# Altium footprint library CAPs.PcbLib: 12 footprints
Each footprint in its own frame and in the unit in brackets; x right, y up, seen from the top. Pads: shape width x height; smd on the part's side, far side on the other; paste and mask are expansions set on the pad; w line width, h text height; cw(c..) or ccw(c..) is an arc to the next point about the centre after c.
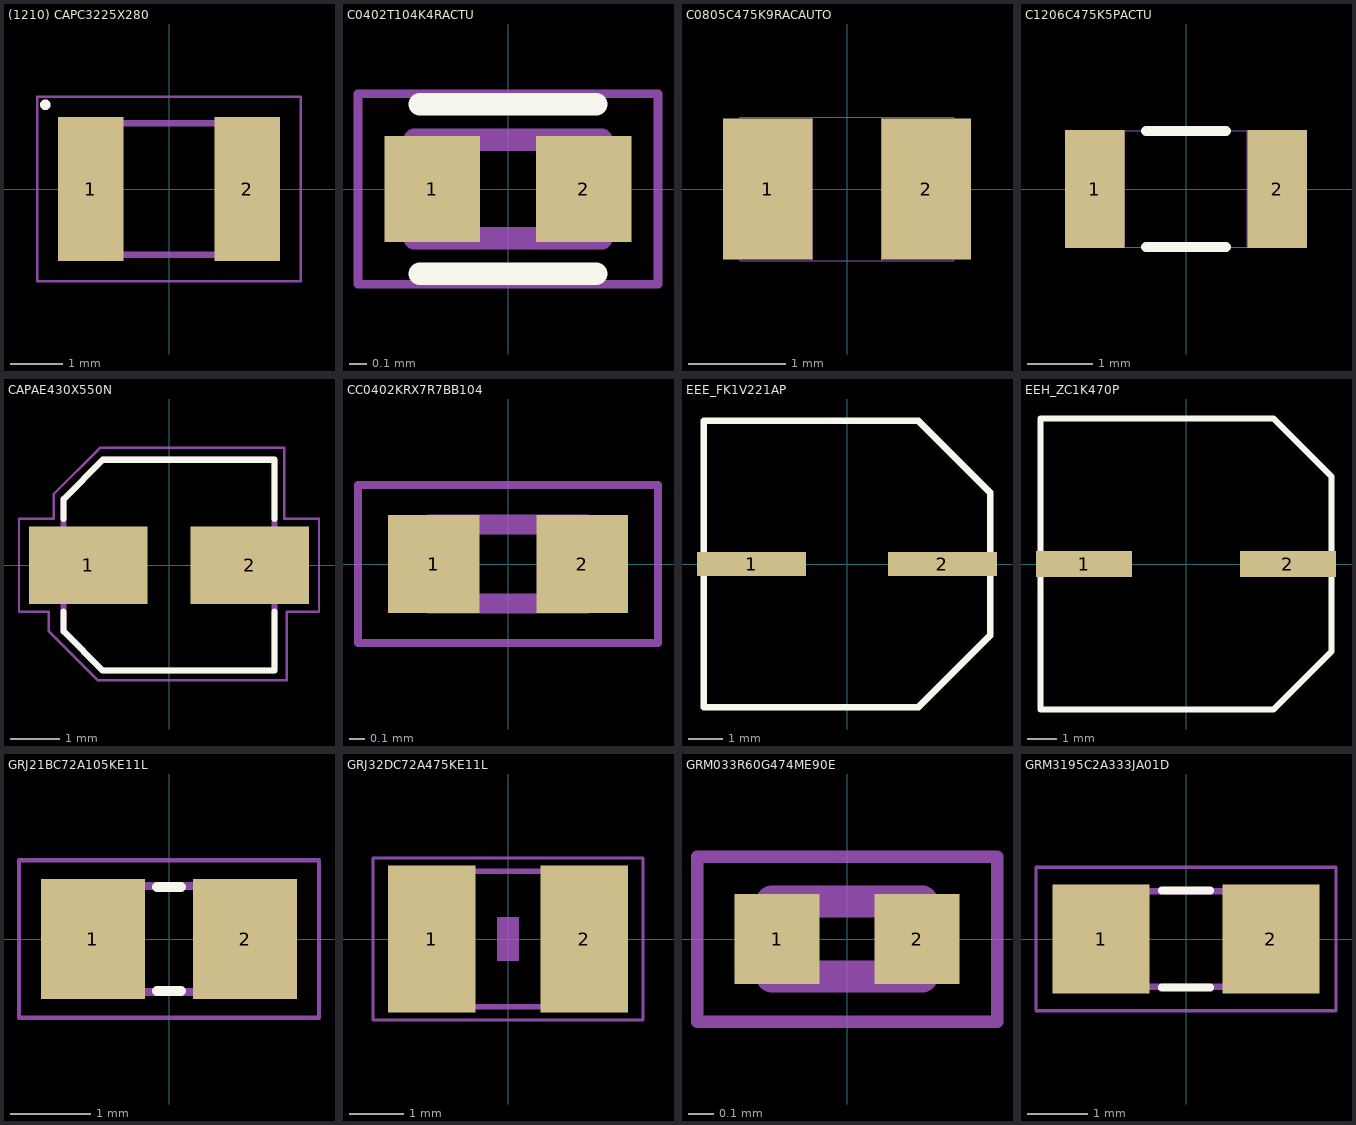
[diagram p0: the footprints below, top view; thin cyan lines are the x and y axes]

## (1210) CAPC3225X280 [mm]
pads (2):
  rect 1.24x2.73 smd: 1(-1.485,0) 2(1.485,0)
Top Overlay:
  circle w0.1: c-2.35,1.6 r0.05
Mechanical 1:
  region: 1.104,1.25 1.6,1.25 1.6,-1.254 1.104,-1.254
  region: -1.607,1.25 -1.1,1.25 -1.1,-1.255 -1.607,-1.255
  lines w0.05: -2.5,-1.75 -2.5,1.75 2.5,1.75 2.5,-1.75 -2.5,-1.75
  lines w0.127: -1.6,-1.25 -1.6,1.25 1.6,1.25 1.6,-1.25 -1.6,-1.25

## C0402T104K4RACTU [mm] "CAPC1005X55N"
pads (2):
  rect 0.54x0.6 smd: 1(-0.43,0) 2(0.43,0)
Top Overlay:
  lines w0.127: -0.5,-0.48 0.5,-0.48 ; -0.5,0.48 0.5,0.48
Mechanical 1:
  lines w0.05: -0.85,-0.54 0.85,-0.54 0.85,0.54 -0.85,0.54 -0.85,-0.54
  lines w0.127: -0.53,-0.28 0.53,-0.28 0.53,0.28 -0.53,0.28 -0.53,-0.28

## C0805C475K9RACAUTO [mil] "CAPC2013X88N"
pads (2):
  rect 36x57 smd: 1(-32,0) 2(32,0)
Mechanical 1:
  lines w0: -14,-29 -14,29 ; -14,-29 -43,-29 -43,29 -14,29 ; -14,-29 14,-29 ; -14,29 14,29 ; 14,-29 14,29 ; 14,-29 43,-29 43,29 14,29

## C1206C475K5PACTU [mil] "CAPC3216X180N"
pads (2):
  rect 36x71 smd: 1(-55,0) 2(55,0)
Top Overlay:
  lines w6: -24,-35 24,-35 ; -24,35 24,35
Mechanical 1:
  lines w0: -37,-35 -37,35 ; -37,-35 -67,-35 -67,35 -37,35 ; -37,-35 37,-35 ; -37,35 37,35 ; 37,-35 37,35 ; 37,-35 67,-35 67,35 37,35

## CAPAE430X550N [mm]
pads (2):
  rect 2.42x1.58 smd: 1(-1.65,0) 2(1.65,0)
Top Overlay:
  lines w0.127: -2.15,-0.95 -2.15,-1.35 -1.35,-2.15 2.15,-2.15 2.15,-0.95 ; -2.15,0.95 -2.15,1.35 -1.35,2.15 2.15,2.15 2.15,0.95
Mechanical 1:
  lines w0.05: -3.06,-0.95 -2.45,-0.95 -2.45,-1.35 -1.45,-2.35 2.4,-2.35 2.4,-0.95 3.06,-0.95 3.06,0.95 2.35,0.95 2.35,2.4 -1.4,2.4 -2.35,1.45 -2.35,0.95 -3.06,0.95 -3.06,-0.95
  lines w0.127: -2.15,-1.35 -1.35,-2.15 2.15,-2.15 2.15,2.15 -1.35,2.15 -2.15,1.35 -2.15,-1.35

## CC0402KRX7R7BB104 [mm] "CAPC1005X55N"
pads (2):
  rect 0.58x0.62 smd: 1(-0.47,0) 2(0.47,0)
Mechanical 1:
  region: 0.25,0.25 0.5,0.25 0.5,-0.25 0.25,-0.25
  region: -0.501,0.25 -0.25,0.25 -0.25,-0.25 -0.501,-0.25
  lines w0.05: -0.95,-0.5 -0.95,0.5 0.95,0.5 0.95,-0.5 -0.95,-0.5
  lines w0.127: -0.5,-0.25 -0.5,0.25 0.5,0.25 0.5,-0.25 -0.5,-0.25

## EEE_FK1V221AP [mm]
pads (2):
  rect 3.2x0.7 smd: 1(-2.8,0) 2(2.8,0)
Top Overlay:
  lines w0.2: -4.2,-4.2 -4.2,2.15 -4.2,4.2 2.1,4.2 4.2,2.1 4.2,1.783 4.2,0.167 4.2,-2.1 2.1,-4.2 -4.2,-4.2

## EEH_ZC1K470P [mm]
pads (2):
  rect 3.3x0.9 smd: 1(-3.5,0) 2(3.5,0)
Top Overlay:
  lines w0.2: -5,-5 3,-5 5,-3 5,3 3,5 -5,5 -5,1.925 -5,-5

## GRJ21BC72A105KE11L [mm] "CAPC2012X135N"
pads (2):
  rect 1.3x1.5 smd: 1(-0.95,0) 2(0.95,0)
Top Overlay:
  lines w0.127: -0.15,-0.65 0.15,-0.65 ; -0.15,0.65 0.15,0.65
Mechanical 1:
  region: 0.356,0.726 1.106,0.726 1.106,-0.725 0.356,-0.725
  region: -1.093,0.726 -0.342,0.726 -0.342,-0.724 -1.093,-0.724
  lines w0.051: -1.873,-0.983 -1.873,0.983 1.873,0.983 1.873,-0.983 -1.873,-0.983
  lines w0.102: -0.381,0.66 0.381,0.66 ; -0.356,-0.66 0.381,-0.66

## GRJ32DC72A475KE11L [mm] "C1210"
pads (2):
  rect 1.6x2.7 smd: 1(-1.4,0) 2(1.4,0)
Mechanical 1:
  region: -0.2,0.4 0.2,0.4 0.2,-0.401 -0.2,-0.401
  region: 0.952,1.295 1.702,1.295 1.702,-1.305 0.952,-1.305
  region: -1.705,1.305 -0.952,1.305 -0.952,-1.298 -1.705,-1.298
  lines w0.051: -2.473,-1.483 -2.473,1.483 2.473,1.483 2.473,-1.483 -2.473,-1.483
  lines w0.102: -0.965,-1.245 0.965,-1.245 ; -0.965,1.245 0.965,1.245

## GRM033R60G474ME90E [mm] "CAPC60X30X35L15N"
pads (2):
  rect 0.34x0.36 smd: 1(-0.28,0) 2(0.28,0)
Mechanical 1:
  region: -0.301,0.1 -0.2,0.1 -0.2,-0.1 -0.301,-0.1
  region: 0.201,0.1 0.3,0.1 0.3,-0.1 0.201,-0.1
  lines w0.05: -0.6,-0.33 -0.6,0.33 0.6,0.33 0.6,-0.33 -0.6,-0.33
  lines w0.127: -0.3,-0.15 0.3,-0.15 0.3,0.15 -0.3,0.15 -0.3,-0.15

## GRM3195C2A333JA01D [mm] "CAPC3216X190"
pads (2):
  rect 1.6x1.8 smd: 1(-1.4,0) 2(1.4,0)
Top Overlay:
  lines w0.127: -0.4,-0.8 0.4,-0.8 ; -0.4,0.8 0.4,0.8
Mechanical 1:
  region: -1.704,0.849 -0.952,0.849 -0.952,-0.852 -1.704,-0.852
  region: 0.952,0.851 1.702,0.851 1.702,-0.849 0.952,-0.849
  lines w0.051: -2.473,-1.183 2.473,-1.183 2.473,1.183 -2.473,1.183 -2.473,-1.183
  lines w0.102: -0.965,-0.787 0.965,-0.787 ; -0.965,0.787 0.965,0.787